# EAGLE library part TPS73701DCQR (library TPS73701)
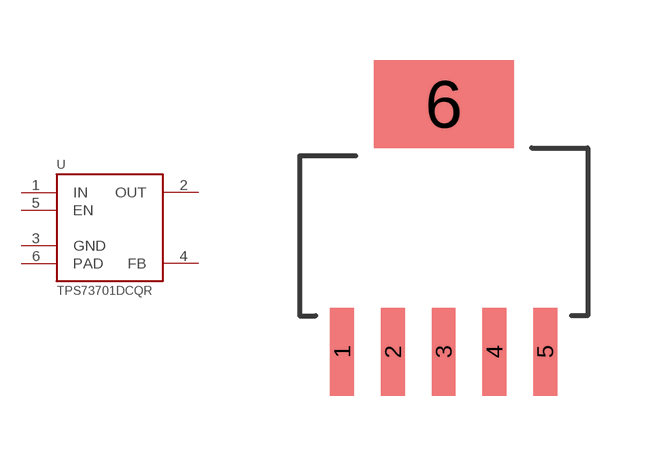
[diagram p0: symbol with the pads of SOT223; footprint SOT223]

Designator prefix U

## TPS73701DCQR  [SOT223]
1  IN
2  OUT
3  GND
4  FB
5  EN
6  PAD

## Footprint SOT223 (pad centres in mm)
smd 0.6 x 2.2: 1 -2.54,-3.1; 2 -1.27,-3.1; 3 0,-3.1; 4 1.27,-3.1; 5 2.54,-3.1
smd 3.5 x 2.2: 6 0,3.1